# EAGLE library part LAH-100PE (library Neel)
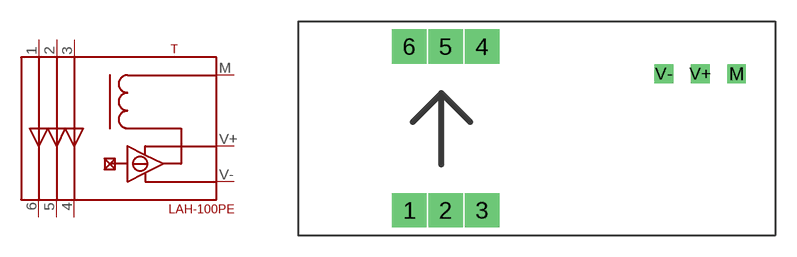
[diagram p57: symbol with the pads of LAH-100PE; footprint LAH-100PE]

Designator prefix T

## LAH-100PE  [LAH-100PE]
1  1
2  2
3  3
4  4
5  5
6  6
M  M
V+  V+
V-  V-

## Footprint LAH-100PE (pad centres in mm)
drill 1.6 pad 2.184 square: 1 7.76,1.75; 2 10.3,1.75; 3 12.84,1.75; 4 12.84,13.18; 5 10.3,13.18; 6 7.76,13.18
drill 0.8 square: M 30.62,11.275; V+ 28.08,11.275; V- 25.54,11.275